# Altium schematic symbol library Panasonic.SchLib: 10 symbols
Pins are listed as number, name and electrical type; pins without a type are passive.

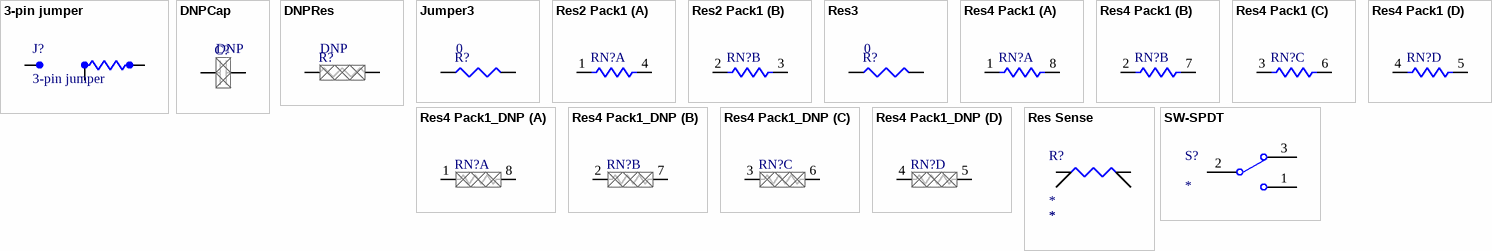
[diagram p0: symbols 3-pin jumper to SW-SPDT]

## 3-pin jumper
designator J?
pins: 1, 2, 3

## DNPCap
designator C?, comment DNP  (no BOM)
Capacitor; Value: DNP
simulation model CAP (Capacitor)
signal-integrity model Cap
pins: 1, 2

## DNPRes
designator R?, comment DNP  (no BOM)
Resistor; Value: DNP
simulation model RESISTOR (Resistor)
signal-integrity model Res
pins: 1, 2

## Jumper3
designator R?, comment value 0  (hidden comment: Jumper)
Resistor; PackageDescription: Chip Resistor
simulation model RESISTOR (Resistor)
signal-integrity model Res
pins: 1, 2

## Res2 Pack1
designator RN?  (value not drawn)
Isolated Resistor Network - Parts; Sim Note: Enter the Resistance value into parameter field.; Code_JEDEC: MS-012-AC
simulation model RESISTOR (Resistor)
signal-integrity model Res Pack
part A pins: 1, 4
part B pins: 2, 3

## Res3
designator R?  value 0  (hidden comment: Res3)
Resistor
simulation model RESISTOR (Resistor)
signal-integrity model Res
pins: 1, 2

## Res4 Pack1
designator RN?  (value not drawn)
Isolated Resistor Network - Parts; Sim Note: Enter the Resistance value into parameter field.; Code_JEDEC: MS-012-AC
simulation model RESISTOR (Resistor)
signal-integrity model Res Pack
part A pins: 1, 8
part B pins: 2, 7
part C pins: 3, 6
part D pins: 4, 5

## Res4 Pack1_DNP
designator RN?  (value not drawn)  (no BOM)
Isolated Resistor Network - Parts; Sim Note: Enter the Resistance value into parameter field.; Code_JEDEC: MS-012-AC
simulation model RESISTOR (Resistor)
signal-integrity model Res Pack
part A pins: 1, 8
part B pins: 2, 7
part C pins: 3, 6
part D pins: 4, 5

## Res Sense
designator R?  (value not drawn)
Power - Rated: *; Value: *; Tolerance: *
pins: 1 I1, 2 I2, 3 S2, 4 S1

## SW-SPDT
designator S?
pins: 1 NO, 2 COM, 3 NC